# EAGLE library part BMP390 (library bmp390)
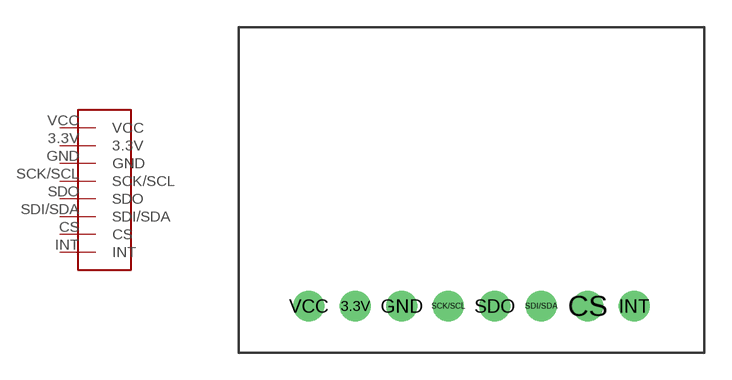
[diagram p0: symbol with the pads of BMP390; footprint BMP390]

Designator prefix -

## BMP390  [BMP390]
3.3V  3.3V
CS  CS
GND  GND
INT  INT
SCK/SCL  SCK/SCL
SDI/SDA  SDI/SDA
SDO  SDO
VCC  VCC

## Footprint BMP390 (pad centres in mm)
drill 1 pad 1.676: 3.3V 6.35,-15.24; CS 19.05,-15.24; GND 8.89,-15.24; INT 21.59,-15.24; SCK/SCL 11.43,-15.24; SDI/SDA 16.51,-15.24; SDO 13.97,-15.24; VCC 3.81,-15.24